# EAGLE library part PTA-07 (library con-phoenix-500)
RECEPTACAL
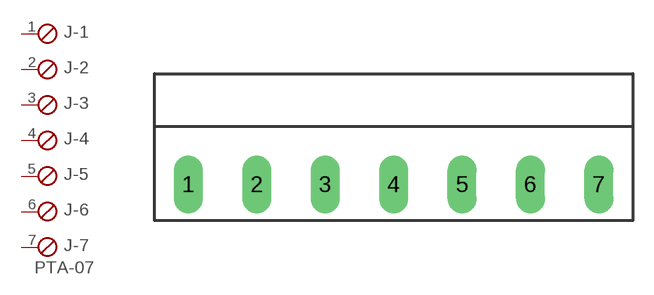
[diagram p6: symbol with the pads of PTA-07; footprint PTA-07]

Designator prefix J; gates -1=SKB -2=SKB -3=SKB -4=SKB -5=SKB -6=SKB -7=SKBV

## PTA-07  [PTA-07]
1  -1:1  pas
2  -2:1  pas
3  -3:1  pas
4  -4:1  pas
5  -5:1  pas
6  -6:1  pas
7  -7:1  pas

## Footprint PTA-07 (pad centres in mm)
RECEPTACAL
drill 1.422 long: 1 -15,0; 2 -10,0; 3 -5,0; 4 0,0; 5 5,0; 6 10,0; 7 15,0